# Altium footprint library NE555P.PcbLib: 1 footprints
Each footprint in its own frame and in the unit in brackets; x right, y up, seen from the top. Pads: shape width x height; smd on the part's side, far side on the other; paste and mask are expansions set on the pad; w line width, h text height; cw(c..) or ccw(c..) is an arc to the next point about the centre after c.
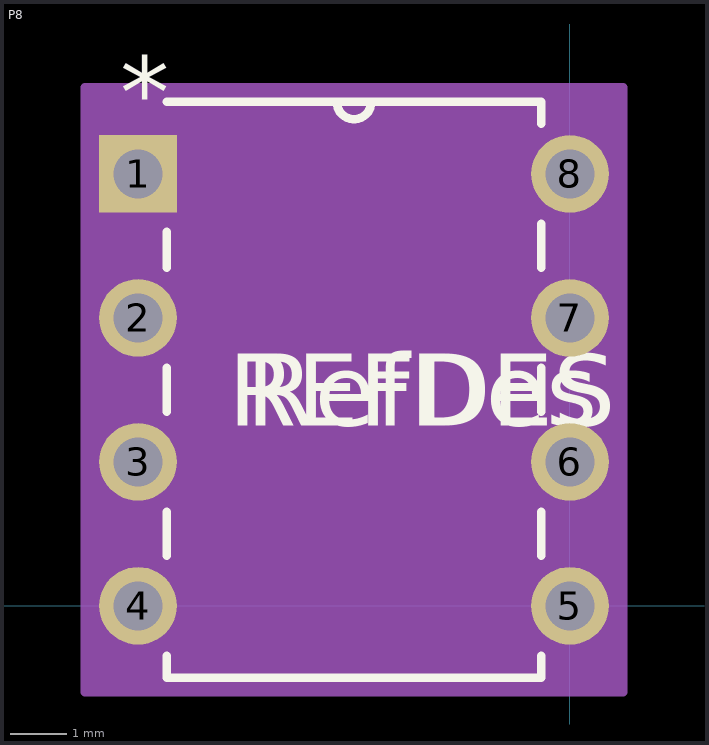
[diagram p0: the footprint, top view; thin cyan lines are the x and y axes]

## P8 [mil]
pads (8):
  rect 54x54 / inner round 60 / far side rect 54x54 hole 34 paste-99999 mask-27: 1(-300,300)
  round 54 / inner round 60 / far side round 54 hole 34 paste-99999 mask-27: 2(-300,200) 3(-300,100) 4(-300,0) 5(0,0) 6(0,100) 7(0,200) 8(0,300)
Top Overlay:
  lines w6: -280,-34.76 -280,-50 -20,-50 -20,-34.76 ; -280,34.76 -280,65.24 ; -280,134.76 -280,165.24 ; -280,234.76 -280,259.9 ; -280,350 -20,350 -20,334.76 ; -162,350 ccw(c-150,350) -138,350 ; -20,34.76 -20,65.24 ; -20,134.76 -20,165.24 ; -20,234.76 -20,265.24
  text "REFDES" at -237.5,125 h50
  text "RefDes" at -225,125 h50
  text "*" at -312.5,332 h50
Mechanical 13:
  lines w0: -162,350 ccw(c-150,350) -138,350
  lines w1: -317,-17 -280,-17 -280,17 -317,17 -317,-17 ; -317,83 -280,83 -280,117 -317,117 -317,83 ; -317,183 -280,183 -280,217 -317,217 -317,183 ; -317,283 -280,283 -280,317 -317,317 -317,283 ; -280,-50 -280,350 -20,350 -20,-50 -280,-50 ; -20,-17 17,-17 17,17 -20,17 -20,-17 ; -20,83 17,83 17,117 -20,117 -20,83 ; -20,183 17,183 17,217 -20,217 -20,183 ; -20,283 17,283 17,317 -20,317 -20,283
  text "RefDes2" at -237.5,125 h50
  text "*" at -312.5,332 h50
Mechanical 15:
  region: 37,-60 -337,-60 -337,360 37,360
  lines w6: -337,-60 -337,360 37,360 37,-60 -337,-60
3D body "P8.step": height 205.12, standoff -100, extent -310,-50 10,350